# Altium footprint library 常用原件库.PcbLib: 19 footprints (part 1 of 2)
Each footprint in its own frame and in the unit in brackets; x right, y up, seen from the top. Pads: shape width x height; smd on the part's side, far side on the other; paste and mask are expansions set on the pad; w line width, h text height; cw(c..) or ccw(c..) is an arc to the next point about the centre after c.
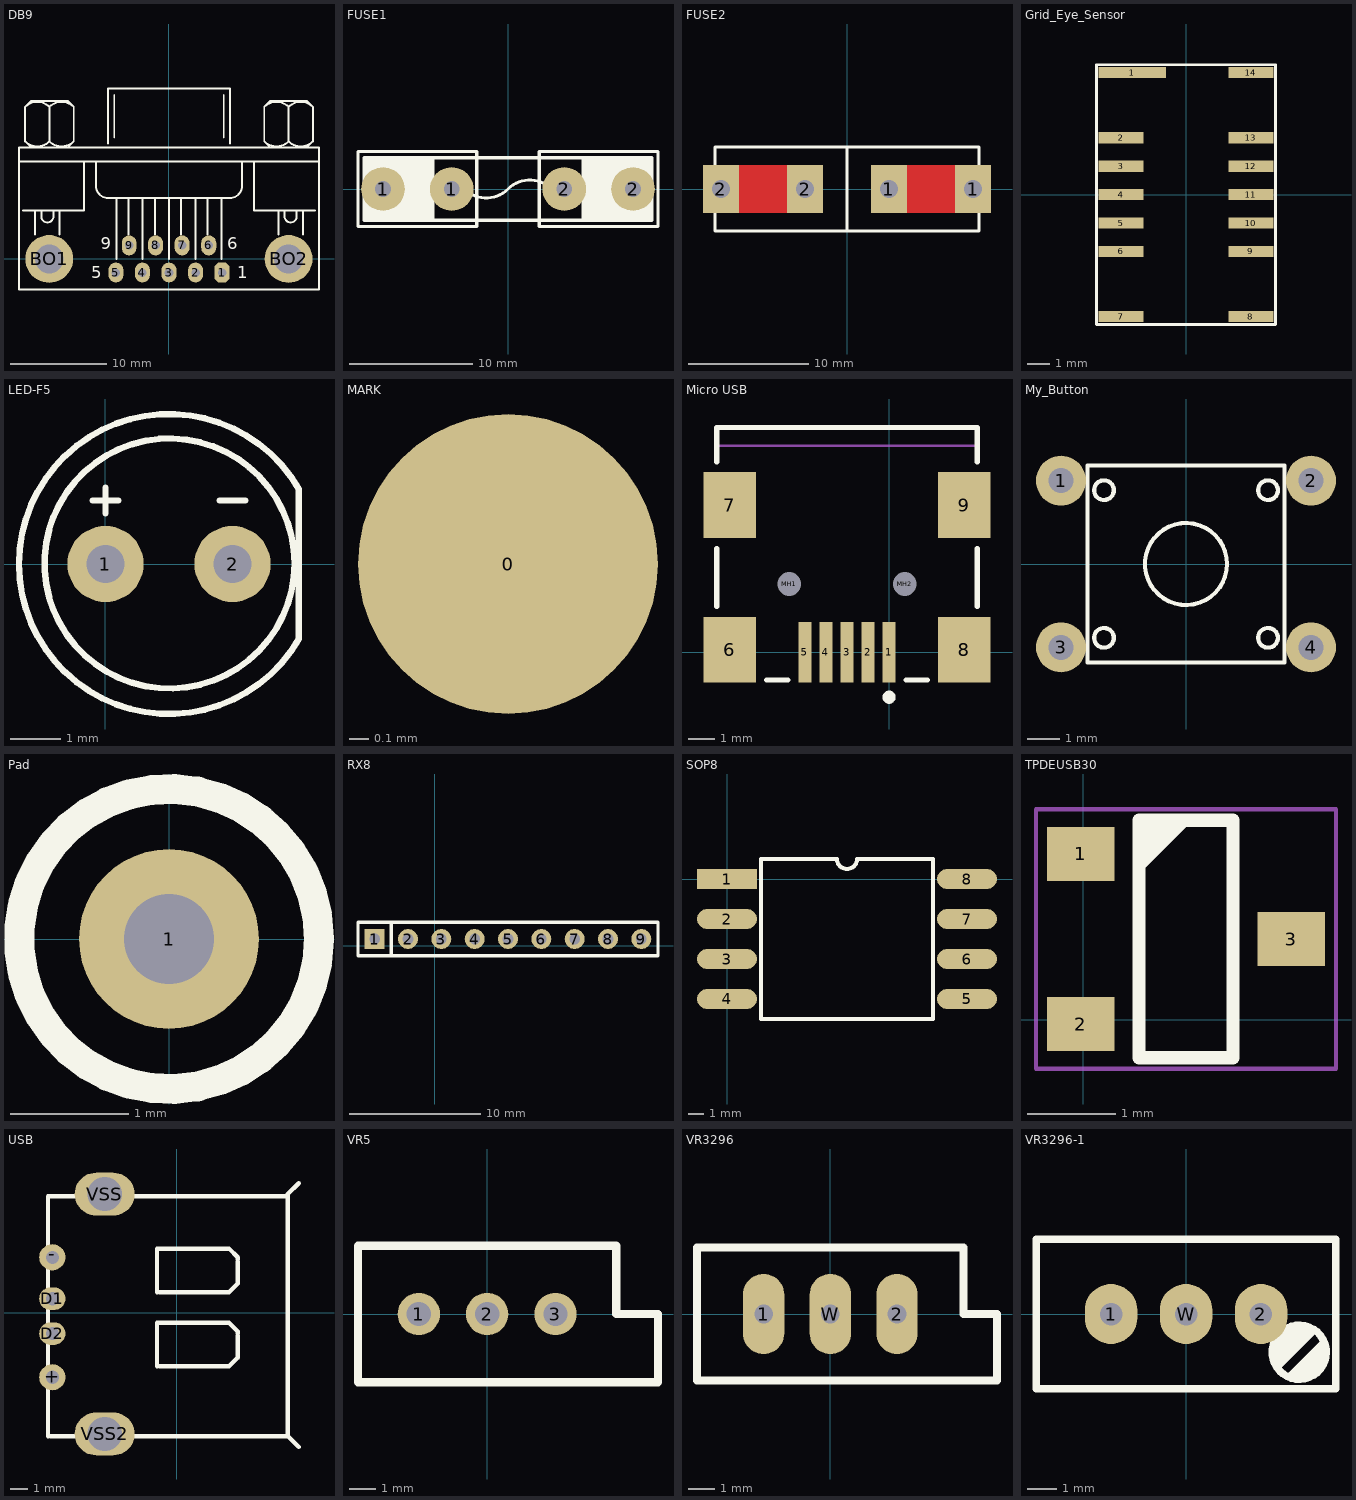
[diagram p0: the footprints below, top view; thin cyan lines are the x and y axes]

## DB9 [mil] "DB9"
pads (11):
  oct 62x82 hole 35: 1(218.75,-55.83)
  oval 62x82 hole 35: 2(109.58,-55.83) 3(0.42,-55.83) 4(-108.75,-55.83) 5(-217.92,-55.83) 6(163.75,55.83) 7(54.58,55.83) 8(-54.58,55.83)
  oval 60x82 hole 35: 9(-163.75,55.83)
  round 196.67 hole 118.33: BO1(-492.08,0) BO2(492.08,0)
Top Overlay:
  lines w8: -616.25,400 617.08,400 ; -599.58,200 -349.58,200 -349.58,400 ; -591.34,483.25 ccw(c-541.25,533.33) -491.16,483.25 ; -591.34,625.09 cw(c-541.25,575) -491.16,625.09 ; -566.25,458.33 -591.25,483.33 -591.25,625 -566.25,650 -416.25,650 -391.25,625 -391.25,483.33 -416.25,458.33 ; -549.58,100 -549.58,200 ; -524.58,200 -524.58,175 ccw(c-499.58,175) -474.58,175 -474.58,200 ; -491.34,483.25 ccw(c-441.25,533.33) -391.16,483.25 ; -491.34,625.09 cw(c-441.25,575) -391.16,625.09 ; -491.25,483.33 -491.25,625 ; -449.58,100 -449.58,200 ; -299.58,400 -299.58,300 ccw(c-249.58,300) -249.58,250 250.42,250 ccw(c250.42,300) 300.42,300 300.42,400 ; -249.58,475 -249.58,700 250.42,700 250.42,475 ; -224.58,500 -224.58,675 ; -216.25,0 -216.25,250 ; -166.25,100 -166.25,250 ; -107.92,0 -107.92,250 ; -57.92,100 -57.92,250 ; 0.42,0 0.42,250 ; 50.42,100 50.42,250 ; 108.75,0 108.75,250 ; 158.75,100 158.75,250 ; 217.08,0 217.08,250 ; 225.42,500 225.42,675 ; 350.42,400 350.42,200 600.42,200 ; 392,483.25 ccw(c442.08,533.33) 492.17,483.25 ; 392,625.09 cw(c442.08,575) 492.17,625.09 ; 417.08,458.33 392.08,483.33 392.08,625 417.08,650 567.08,650 592.08,625 592.08,483.33 567.08,458.33 ; 450.42,100 450.42,200 ; 475.42,200 475.42,175 ccw(c500.42,175) 525.42,175 525.42,200 ; 492,483.25 ccw(c542.08,533.33) 592.17,483.25 ; 492,625.09 cw(c542.08,575) 592.17,625.09 ; 492.08,483.33 492.08,625 ; 550.42,100 550.42,200 ; -616.25,-125 -616.25,458.33 617.08,458.33 617.08,-125 -616.25,-125
  text "9" at -279.58,40 h50
  text "5" at -319.58,-80 h50
  text "1" at 280.42,-80 h50
  text "6" at 240.42,40 h50

## FUSE1 [mil]
pads (4):
  round 140 hole 50: 1(-400,0) 1(-180,0) 2(180,0) 2(400,0)
Top Overlay:
  rectangle: -460,-100 -240,100
  rectangle: 240,-100 460,100
  lines w10: -240,-100 -240,100 ; -140,0 ccw(c-70,70) 0,0 cw(c70,-70) 140,0 ; 240,-100 240,100 ; -480,-120 -480,0 -480,120 -100,120 -100,-120 -480,-120 ; -460,-100 460,-100 460,100 440,100 -460,100 -460,-100 ; 100,-120 100,120 480,120 480,-120 100,-120

## FUSE2 [mil]
pads (4):
  rect 118x157 hole 59: 1(137.5,0) 1(413.5,0) 2(-413.5,0) 2(-137.5,0)
Top Layer:
  rectangle: 177.5,-79 374.5,79
  rectangle: -373.5,-79 -177.5,79
Bottom Layer:
  rectangle: -373.5,-79 -177.5,79
  rectangle: 177.5,-79 374.5,79
Top Overlay:
  lines w10: 0.5,-138 0.5,138 ; -432.5,-138 -432.5,138 433.5,138 433.5,-138 -432.5,-138

## Grid_Eye_Sensor [mm] "Grid Eye Sensor"
pads (14):
  rect 3x0.5 smd: 1(-2.4,5.45)
  rect 2x0.5 smd: 2(-2.9,2.54) 3(-2.9,1.27) 4(-2.9,0) 5(-2.9,-1.27) 6(-2.9,-2.54) 7(-2.9,-5.45) 8(2.9,-5.45) 9(2.9,-2.54) 10(2.9,-1.27) 11(2.9,0) 12(2.9,1.27) 13(2.9,2.54) 14(2.9,5.45)
Top Overlay:
  lines w0.127: -4,-5.8 -4,5.8 4,5.8 4,-5.8 -4,-5.8
Bottom Paste:
  lines w0.027: -3.9,-5.8 -3.9,5.8 ; 3.9,-5.8 3.9,5.8

## LED-F5 [mil] "LED F5 草帽灯"
pads (2):
  round 60 hole 30: 1(0,0) 2(100,0)
Top Overlay:
  circle w5: c50.4,0.4 r98.43
  lines w5: -10,50 10,50 ; 0,40 0,60 ; 90,50 110,50 ; 152.29,-59.06 cw(c50,0) 152.29,59.06 152.29,-57.98

## MARK [mil]
pads (1):
  round 60 all layers, no hole: 0(50000,50000)

## Micro USB [mm] "Micro USB 5p"
pads (11):
  rect 0.5x2.3 smd: 1(0,0) 2(-0.8,0) 3(-1.6,0) 4(-2.4,0) 5(-3.2,0)
  rect 2x2.5 smd: 6(-6.05,0.1) 7(-6.05,5.6) 8(2.85,0.1) 9(2.85,5.6)
  round 0.6 hole 0.9 unplated: MH1(-3.8,2.6) MH2(0.6,2.6)
Top Overlay:
  circle w0.25: c0,-1.7 r0.125
  lines w0.2: -6.55,1.75 -6.55,3.95 ; -6.55,7.25 -6.55,8.55 3.35,8.55 3.35,7.25 ; -4.65,-1.05 -3.85,-1.05 ; 0.65,-1.05 1.45,-1.05 ; 3.35,1.75 3.35,3.95
Mechanical 1:
  lines w0.1: -6.55,7.85 3.35,7.85
  text "PCB Edge" at 2.436,8.282 h0.25

## My_Button [mil] "My Botton 4 pins"
pads (4):
  round 60 hole 30: 1(-150,100) 2(150,100) 3(-150,-100) 4(150,-100)
Top Overlay:
  circle w5: c0,0 r49.21
  circle w5: c98.43,88.58 r11.81
  circle w5: c-98.43,88.58 r11.81
  circle w5: c-98.43,-88.58 r11.81
  circle w5: c98.43,-88.58 r11.81
  lines w5: -118.11,-118.11 118.11,-118.11 118.11,118.11 -118.11,118.11 -118.11,-118.11

## Pad [mil] "My Pad"
pads (1):
  round 60 hole 30: 1(0,0)
Top Overlay:
  circle w10: c0,0 r50

## RX8 [mil]
pads (9):
  rect 60x60 hole 32: 1(-180,20)
  round 60 hole 32: 2(-80,20) 3(20,20) 4(120,20) 5(220,20) 6(320,20) 7(420,20) 8(520,20) 9(620,20)
Top Overlay:
  lines w10: -130,-30 -130,70 ; -230,-30 670,-30 670,70 -230,70 -230,-30

## SOP8 [mil]
pads (8):
  rect 150x50 smd: 1(0,0)
  oval 150x50 smd: 2(0,-100) 3(0,-200) 4(0,-300) 5(600,-300) 6(600,-200) 7(600,-100) 8(600,0)
Top Overlay:
  lines w10: 85,-350 515,-350 515,50 325,50 cw(c300,50) 275,50 85,50 85,-350

## TPDEUSB30 [mil] "TPDEUSB30"
pads (3):
  rect 30x24 smd: 1(-1,74) 2(-1,-2) 3(93,36)
Top Overlay:
  region: 25,89 49,89 25,65
  lines w6: 25,-17 67,-17 67,89 25,89 25,-17
Mechanical 14:
  lines w2: -21,-22 113,-22 113,94 -21,94 -21,-22
3D body: height 51.18, standoff 0, extent -9.11,-21.09 101.12,93.09

## USB [mm]
pads (6):
  round 1.524 hole 0.762: +(-7.255,-3.757) -(-7.255,3.228)
  oval 1.524x1.324 hole 0.762: D1(-7.255,0.815) D2(-7.255,-1.217)
  oval 3.5x2.5 hole 2: VSS(-4.207,6.911) VSS2(-4.207,-7.059)
Top Overlay:
  lines w0.254: -7.509,-7.186 -7.509,6.784 6.461,6.784 ; -7.382,-7.186 6.461,-7.186 ; -1.159,-3.122 -1.159,-0.582 3.032,-0.582 3.54,-1.09 3.54,-1.217 ; -1.159,1.196 -1.159,3.736 3.032,3.736 3.54,3.228 3.54,3.101 ; -1.032,-3.122 3.032,-3.122 3.54,-2.614 3.54,-1.344 ; -1.032,1.196 3.032,1.196 3.54,1.704 3.54,2.974 ; 7.096,-7.821 6.461,-7.186 ; 7.096,7.546 6.461,6.911 6.461,6.784 ; 6.461,-7.186 6.461,6.784

## VR5 [mil]
pads (3):
  round 62 hole 35.43: 1(-100,0) 2(0,0) 3(100,0)
Top Overlay:
  lines w12: -188.98,-100 -188.98,100 188.98,100 188.98,0 250,0 250,-100 -188.98,-100

## VR3296 [mil]
pads (3):
  oval 62x120 hole 28: 1(-100,0) 2(100,0) W(0,0)
Top Overlay:
  lines w12: -200,-100 250,-100 250,0 200,0 200,100 -200,100 -200,-100

## VR3296-1 [mil]
pads (3):
  oval 70x80 hole 30: 1(-100,0) 2(100,0) W(0,0)
Top Overlay:
  circle w10: c151,-51 r36.06
  lines w10: 157.76,-74.24 164.24,-74.24 171,-81 ; 171,-21 151,-41 121,-71 121,-61 161,-21 141,-21 ; 172.88,-79.12 171,-81 ; 181,-41 141,-81 151,-81 ; 131,-31 121,-41 121,-51 141,-31 ; 131,-31 141,-21 ; 131,-31 141,-31 ; 141,-31 141,-21 ; 141,-31 151,-31 141,-21 ; 151,-81 171,-81 ; 151,-81 166.82,-65.18 172.88,-65.18 187.06,-51 187.06,-47.06 172.88,-61.23 170.77,-61.23 171,-61.47 171,-81 ; -200,-100 0,-100 200,-100 200,100 -200,100 -200,-100